# EAGLE library part TPS70402 (library texas-instruments)
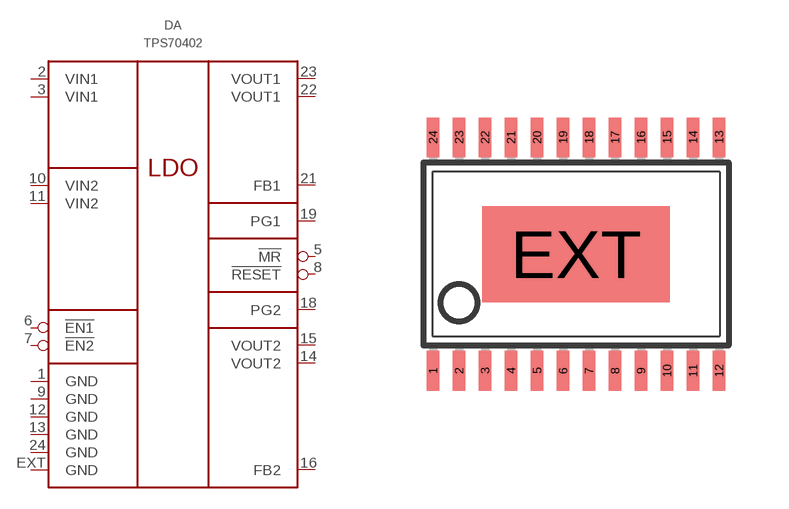
[diagram p10: symbol with the pads of HTSSOP-24; footprint HTSSOP-24]

Designator prefix DA

## TPS70402PWP  [HTSSOP-24]
1  GND  pwr
2  VIN1  pwr
3  VIN1  pwr
5  !MR  out
6  !EN1  in
7  !EN2  in
8  !RESET  out
9  GND  pwr
10  VIN2  pwr
11  VIN2  pwr
12  GND  pwr
13  GND  pwr
14  VOUT2  pwr
15  VOUT2  pwr
16  FB2  in
18  PG2  out
19  PG1  out
21  FB1  in
22  VOUT1  pwr
23  VOUT1  pwr
24  GND  pwr
EXT  GND  pwr

## Footprint HTSSOP-24 (pad centres in mm)
Thin Shrink Small Outline Plastic 24 MAX3223-MAX3243.pdf
smd 0.305 x 0.991: 1 -3.575,-2.918; 2 -2.925,-2.918; 3 -2.275,-2.918; 4 -1.625,-2.918; 5 -0.975,-2.918; 6 -0.325,-2.918; 7 0.325,-2.918; 8 0.975,-2.918; 9 1.625,-2.918; 10 2.275,-2.918; 11 2.925,-2.918; 12 3.575,-2.918; 13 3.575,2.918; 14 2.925,2.918; 15 2.275,2.918; 16 1.625,2.918; 17 0.975,2.918; 18 0.325,2.918; 19 -0.325,2.918; 20 -0.975,2.918; 21 -1.625,2.918; 22 -2.275,2.918; 23 -2.925,2.918; 24 -3.575,2.918
smd 4.68 x 2.4: EXT 0,0